# Altium schematic symbol library CN HDR 2POS Molex 43045-0227.Schlib: 1 symbol
Pins are listed as number, name and electrical type; pins without a type are passive.

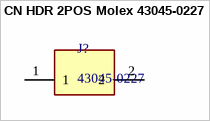
[diagram p0: symbol CN HDR 2POS Molex 43045-0227]

## CN HDR 2POS Molex 43045-0227
designator J?, comment 43045-0227
Molex 43045-0227 2POS Microfit / dual row, Vertical
footprint MOLEX_0430450227
pins: 1, 2